# Altium footprint library STM32F411CEU6.PcbLib: 3 footprints
Each footprint in its own frame and in the unit in brackets; x right, y up, seen from the top. Pads: shape width x height; smd on the part's side, far side on the other; paste and mask are expansions set on the pad; w line width, h text height; cw(c..) or ccw(c..) is an arc to the next point about the centre after c.
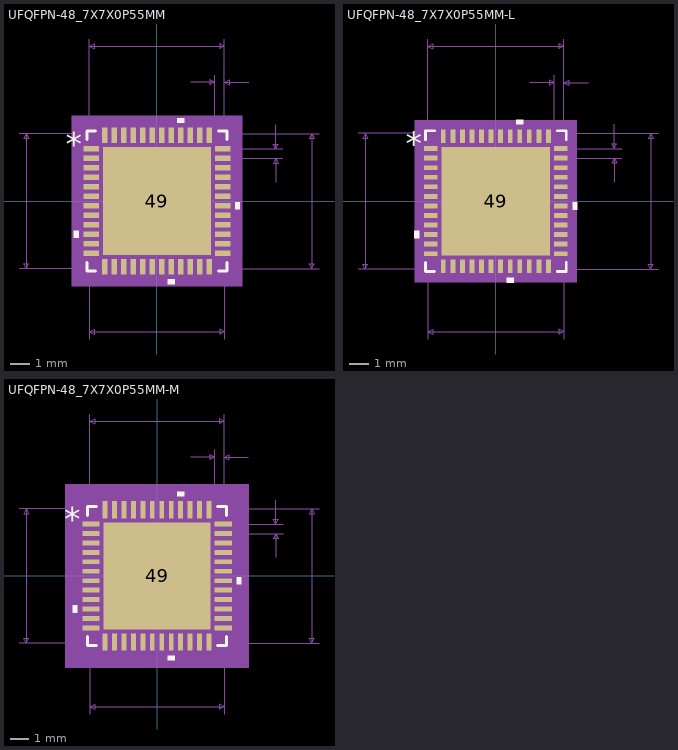
[diagram p0: the footprints below, top view; thin cyan lines are the x and y axes]

## UFQFPN-48_7X7X0P55MM [mil]
pads (49):
  rect 32x12 smd paste+0 mask+0: 1(-136,108.27) 2(-136,88.58) 3(-136,68.9) 4(-136,49.21) 5(-136,29.53) 6(-136,9.84) 7(-136,-9.84) 8(-136,-29.53) 9(-136,-49.21) 10(-136,-68.9) 11(-136,-88.58) 12(-136,-108.27) 25(136,-108.27) 26(136,-88.58) 27(136,-68.9) 28(136,-49.21) 29(136,-29.53) 30(136,-9.84) 31(136,9.84) 32(136,29.53) 33(136,49.21) 34(136,68.9) 35(136,88.58) 36(136,108.27)
  rect 12x32 smd paste+0 mask+0: 13(-108.27,-136) 14(-88.58,-136) 15(-68.9,-136) 16(-49.21,-136) 17(-29.53,-136) 18(-9.84,-136) 19(9.84,-136) 20(29.53,-136) 21(49.21,-136) 22(68.9,-136) 23(88.58,-136) 24(108.27,-136) 37(108.27,136) 38(88.58,136) 39(68.9,136) 40(49.21,136) 41(29.53,136) 42(9.84,136) 43(-9.84,136) 44(-29.53,136) 45(-49.21,136) 46(-68.9,136) 47(-88.58,136) 48(-108.27,136)
  rect 224x224 smd paste-111.5 mask+0: 49(0,0)
Top Overlay:
  region: -162,-61.4 -172,-61.4 -172,-76.4 -162,-76.4
  region: 37.03,-162 22.03,-162 22.03,-172 37.03,-172
  region: 162,-2.34 172,-2.34 172,-17.34 162,-17.34
  region: 56.71,162 41.71,162 41.71,172 56.71,172
  lines w6: -145,-127.37 -145,-145 -127.37,-145 ; -145,127.37 -145,145 -127.37,145 ; 127.37,-145 145,-145 145,-127.37 ; 127.37,145 145,145 145,127.37
  text "*" at -189.5,93.11 h50
Top Paste:
  region: -59.94,108.06 -108.06,108.06 -108.06,59.94 -59.94,59.94
  region: -59.94,52.06 -108.06,52.06 -108.06,3.94 -59.94,3.94
  region: -59.94,-3.94 -108.06,-3.94 -108.06,-52.06 -59.94,-52.06
  region: -59.94,-59.94 -108.06,-59.94 -108.06,-108.06 -59.94,-108.06
  region: -3.94,108.06 -52.06,108.06 -52.06,59.94 -3.94,59.94
  region: -3.94,52.06 -52.06,52.06 -52.06,3.94 -3.94,3.94
  region: -3.94,-3.94 -52.06,-3.94 -52.06,-52.06 -3.94,-52.06
  region: -3.94,-59.94 -52.06,-59.94 -52.06,-108.06 -3.94,-108.06
  region: 52.06,108.06 3.94,108.06 3.94,59.94 52.06,59.94
  region: 52.06,52.06 3.94,52.06 3.94,3.94 52.06,3.94
  region: 52.06,-3.94 3.94,-3.94 3.94,-52.06 52.06,-52.06
  region: 52.06,-59.94 3.94,-59.94 3.94,-108.06 52.06,-108.06
  region: 108.06,108.06 59.94,108.06 59.94,59.94 108.06,59.94
  region: 108.06,52.06 59.94,52.06 59.94,3.94 108.06,3.94
  region: 108.06,-3.94 59.94,-3.94 59.94,-52.06 108.06,-52.06
  region: 108.06,-59.94 59.94,-59.94 59.94,-108.06 108.06,-108.06
Mechanical 5:
  region: 177,-177 -177,-177 -177,177 177,177
Mechanical 7:
  lines w1: -286,-140 140,-140 ; -286,140 140,140 140,-286 ; -140,-286 -140,140 ; -140,108.27 -140,336 ; 70,246 120,246 ; 108.27,-140 336,-140 ; 108.27,140 336,140 ; 120,108.27 120,261 ; 136,88.58 261,88.58 ; 136,108.27 261,108.27 ; 140,261 140,108.27 140,336 ; 190,246 140,246 ; 246,38.58 246,88.58 ; 246,158.27 246,108.27 ; -271,-140 -271,140 ; -271,-140 -276,-130 -266,-130 -271,-140 ; -271,140 -276,130 -266,130 -271,140 ; -140,-271 140,-271 ; -140,-271 -130,-266 -130,-276 -140,-271 ; -140,321 140,321 ; -140,321 -130,326 -130,316 -140,321 ; 120,246 110,251 110,241 120,246 ; 140,-271 130,-266 130,-276 140,-271 ; 140,246 150,251 150,241 140,246 ; 140,321 130,326 130,316 140,321 ; 246,88.58 241,78.58 251,78.58 246,88.58 ; 246,108.27 241,118.27 251,118.27 246,108.27 ; 321,-140 321,140 ; 321,-140 316,-130 326,-130 321,-140 ; 321,140 316,130 326,130 321,140
  text "Default Padstyle: RX32Y12D0T" at -350,-462 h50
  text "Heat Tab Padstyle: RX224Y224D0T" at -387.5,-522 h50
  text "Alt 1 Padstyle: OX90Y60D30P" at -337.5,-642 h50
  text "Alt 2 Padstyle: OX60Y90D30P" at -337.5,-702 h50
  text "0.02in/0.5mm" at 266,85.93 h25
  text "0.02in/0.508mm" at 42.5,266 h25
  text "0.28in/7.112mm" at -87.5,341 h25
  text "0.28in/7.112mm" at 341,-12.5 h25
  text "0.28in/7.112mm" at -466,-12.5 h25
  text "0.28in/7.112mm" at -87.5,-316 h25
Mechanical 13:
  drawing of 201 lines, arcs and shapes, not listed
  text "*" at -132.5,93.11 h50
Mechanical 15:
  region: -118.11,-150 -150,-150 -150,-118.11 -160,-118.11 -160,118.11 -150,118.11 -150,150 -118.11,150 -118.11,160 118.11,160 118.11,150 150,150 150,118.11 160,118.11 160,-118.11 150,-118.11 150,-150 118.11,-150 118.11,-160 -118.11,-160
  lines w6: -160,-118.11 -150,-118.11 -150,-150 -118.11,-150 -118.11,-160 118.11,-160 118.11,-150 150,-150 150,-118.11 160,-118.11 160,118.11 150,118.11 150,150 118.11,150 118.11,160 -118.11,160 -118.11,150 -150,150 -150,118.11 -160,118.11 -160,-118.11
3D body "UFQFPN-48_7X7X0P55MM.step": height 24.09, standoff 0, extent -140,-140 140,140

## UFQFPN-48_7X7X0P55MM-L [mil]
pads (49):
  rect 28x10 smd paste+0 mask+0: 1(-134,108.27) 2(-134,88.58) 3(-134,68.9) 4(-134,49.21) 5(-134,29.53) 6(-134,9.84) 7(-134,-9.84) 8(-134,-29.53) 9(-134,-49.21) 10(-134,-68.9) 11(-134,-88.58) 12(-134,-108.27) 25(134,-108.27) 26(134,-88.58) 27(134,-68.9) 28(134,-49.21) 29(134,-29.53) 30(134,-9.84) 31(134,9.84) 32(134,29.53) 33(134,49.21) 34(134,68.9) 35(134,88.58) 36(134,108.27)
  rect 10x28 smd paste+0 mask+0: 13(-108.27,-134) 14(-88.58,-134) 15(-68.9,-134) 16(-49.21,-134) 17(-29.53,-134) 18(-9.84,-134) 19(9.84,-134) 20(29.53,-134) 21(49.21,-134) 22(68.9,-134) 23(88.58,-134) 24(108.27,-134) 37(108.27,134) 38(88.58,134) 39(68.9,134) 40(49.21,134) 41(29.53,134) 42(9.84,134) 43(-9.84,134) 44(-29.53,134) 45(-49.21,134) 46(-68.9,134) 47(-88.58,134) 48(-108.27,134)
  rect 224x224 smd paste-111.5 mask+0: 49(0,0)
Top Overlay:
  region: -158,-61.4 -168,-61.4 -168,-76.4 -158,-76.4
  region: 37.03,-158 22.03,-158 22.03,-168 37.03,-168
  region: 158,-2.34 168,-2.34 168,-17.34 158,-17.34
  region: 56.71,158 41.71,158 41.71,168 56.71,168
  lines w6: -145,-126.37 -145,-145 -126.37,-145 ; -145,126.37 -145,145 -126.37,145 ; 126.37,-145 145,-145 145,-126.37 ; 126.37,145 145,145 145,126.37
  text "*" at -185.5,93.11 h50
Top Paste:
  region: -59.94,108.06 -108.06,108.06 -108.06,59.94 -59.94,59.94
  region: -59.94,52.06 -108.06,52.06 -108.06,3.94 -59.94,3.94
  region: -59.94,-3.94 -108.06,-3.94 -108.06,-52.06 -59.94,-52.06
  region: -59.94,-59.94 -108.06,-59.94 -108.06,-108.06 -59.94,-108.06
  region: -3.94,108.06 -52.06,108.06 -52.06,59.94 -3.94,59.94
  region: -3.94,52.06 -52.06,52.06 -52.06,3.94 -3.94,3.94
  region: -3.94,-3.94 -52.06,-3.94 -52.06,-52.06 -3.94,-52.06
  region: -3.94,-59.94 -52.06,-59.94 -52.06,-108.06 -3.94,-108.06
  region: 52.06,108.06 3.94,108.06 3.94,59.94 52.06,59.94
  region: 52.06,52.06 3.94,52.06 3.94,3.94 52.06,3.94
  region: 52.06,-3.94 3.94,-3.94 3.94,-52.06 52.06,-52.06
  region: 52.06,-59.94 3.94,-59.94 3.94,-108.06 52.06,-108.06
  region: 108.06,108.06 59.94,108.06 59.94,59.94 108.06,59.94
  region: 108.06,52.06 59.94,52.06 59.94,3.94 108.06,3.94
  region: 108.06,-3.94 59.94,-3.94 59.94,-52.06 108.06,-52.06
  region: 108.06,-59.94 59.94,-59.94 59.94,-108.06 108.06,-108.06
Mechanical 5:
  region: 167,-167 -167,-167 -167,167 167,167
Mechanical 7:
  lines w1: -284,-140 140,-140 ; -284,140 140,140 140,-284 ; -140,-284 -140,140 ; -140,108.27 -140,334 ; 70,244 120,244 ; 108.27,-140 334,-140 ; 108.27,140 334,140 ; 120,108.27 120,259 ; 134,88.58 259,88.58 ; 134,108.27 259,108.27 ; 140,259 140,108.27 140,334 ; 190,244 140,244 ; 244,38.58 244,88.58 ; 244,158.27 244,108.27 ; -269,-140 -269,140 ; -269,-140 -274,-130 -264,-130 -269,-140 ; -269,140 -274,130 -264,130 -269,140 ; -140,-269 140,-269 ; -140,-269 -130,-264 -130,-274 -140,-269 ; -140,319 140,319 ; -140,319 -130,324 -130,314 -140,319 ; 120,244 110,249 110,239 120,244 ; 140,-269 130,-264 130,-274 140,-269 ; 140,244 150,249 150,239 140,244 ; 140,319 130,324 130,314 140,319 ; 244,88.58 239,78.58 249,78.58 244,88.58 ; 244,108.27 239,118.27 249,118.27 244,108.27 ; 319,-140 319,140 ; 319,-140 314,-130 324,-130 319,-140 ; 319,140 314,130 324,130 319,140
  text "Default Padstyle: RX10Y28D0T" at -350,-458 h50
  text "Heat Tab Padstyle: RX224Y224D0T" at -387.5,-518 h50
  text "Alt 1 Padstyle: OX60Y90D30P" at -337.5,-638 h50
  text "Alt 2 Padstyle: OX90Y60D30P" at -337.5,-698 h50
  text "0.02in/0.5mm" at 264,85.93 h25
  text "0.02in/0.508mm" at 42.5,264 h25
  text "0.28in/7.112mm" at -87.5,339 h25
  text "0.28in/7.112mm" at 339,-12.5 h25
  text "0.28in/7.112mm" at -464,-12.5 h25
  text "0.28in/7.112mm" at -87.5,-314 h25
Mechanical 13:
  drawing of 201 lines, arcs and shapes, not listed
  text "*" at -132.5,93.11 h50
Mechanical 15:
  region: -117.27,-144 -144,-144 -144,-117.27 -152,-117.27 -152,117.27 -144,117.27 -144,144 -117.27,144 -117.27,152 117.27,152 117.27,144 144,144 144,117.27 152,117.27 152,-117.27 144,-117.27 144,-144 117.27,-144 117.27,-152 -117.27,-152
  lines w6: -152,-117.27 -144,-117.27 -144,-144 -117.27,-144 -117.27,-152 117.27,-152 117.27,-144 144,-144 144,-117.27 152,-117.27 152,117.27 144,117.27 144,144 117.27,144 117.27,152 -117.27,152 -117.27,144 -144,144 -144,117.27 -152,117.27 -152,-117.27
3D body "UFQFPN-48_7X7X0P55MM.step": height 24.09, standoff 0, extent -140,-140 140,140

## UFQFPN-48_7X7X0P55MM-M [mil]
pads (49):
  rect 36x10 smd paste+0 mask+0: 1(-138,108.27) 2(-138,88.58) 3(-138,68.9) 4(-138,49.21) 5(-138,29.53) 6(-138,9.84) 7(-138,-9.84) 8(-138,-29.53) 9(-138,-49.21) 10(-138,-68.9) 11(-138,-88.58) 12(-138,-108.27) 25(138,-108.27) 26(138,-88.58) 27(138,-68.9) 28(138,-49.21) 29(138,-29.53) 30(138,-9.84) 31(138,9.84) 32(138,29.53) 33(138,49.21) 34(138,68.9) 35(138,88.58) 36(138,108.27)
  rect 10x36 smd paste+0 mask+0: 13(-108.27,-138) 14(-88.58,-138) 15(-68.9,-138) 16(-49.21,-138) 17(-29.53,-138) 18(-9.84,-138) 19(9.84,-138) 20(29.53,-138) 21(49.21,-138) 22(68.9,-138) 23(88.58,-138) 24(108.27,-138) 37(108.27,138) 38(88.58,138) 39(68.9,138) 40(49.21,138) 41(29.53,138) 42(9.84,138) 43(-9.84,138) 44(-29.53,138) 45(-49.21,138) 46(-68.9,138) 47(-88.58,138) 48(-108.27,138)
  rect 224x224 smd paste-111.5 mask+0: 49(0,0)
Top Overlay:
  region: -166,-61.4 -176,-61.4 -176,-76.4 -166,-76.4
  region: 37.03,-166 22.03,-166 22.03,-176 37.03,-176
  region: 166,-2.34 176,-2.34 176,-17.34 166,-17.34
  region: 56.71,166 41.71,166 41.71,176 56.71,176
  lines w6: -145,-126.37 -145,-145 -126.37,-145 ; -145,126.37 -145,145 -126.37,145 ; 126.37,-145 145,-145 145,-126.37 ; 126.37,145 145,145 145,126.37
  text "*" at -193.5,93.11 h50
Top Paste:
  region: -59.94,108.06 -108.06,108.06 -108.06,59.94 -59.94,59.94
  region: -59.94,52.06 -108.06,52.06 -108.06,3.94 -59.94,3.94
  region: -59.94,-3.94 -108.06,-3.94 -108.06,-52.06 -59.94,-52.06
  region: -59.94,-59.94 -108.06,-59.94 -108.06,-108.06 -59.94,-108.06
  region: -3.94,108.06 -52.06,108.06 -52.06,59.94 -3.94,59.94
  region: -3.94,52.06 -52.06,52.06 -52.06,3.94 -3.94,3.94
  region: -3.94,-3.94 -52.06,-3.94 -52.06,-52.06 -3.94,-52.06
  region: -3.94,-59.94 -52.06,-59.94 -52.06,-108.06 -3.94,-108.06
  region: 52.06,108.06 3.94,108.06 3.94,59.94 52.06,59.94
  region: 52.06,52.06 3.94,52.06 3.94,3.94 52.06,3.94
  region: 52.06,-3.94 3.94,-3.94 3.94,-52.06 52.06,-52.06
  region: 52.06,-59.94 3.94,-59.94 3.94,-108.06 52.06,-108.06
  region: 108.06,108.06 59.94,108.06 59.94,59.94 108.06,59.94
  region: 108.06,52.06 59.94,52.06 59.94,3.94 108.06,3.94
  region: 108.06,-3.94 59.94,-3.94 59.94,-52.06 108.06,-52.06
  region: 108.06,-59.94 59.94,-59.94 59.94,-108.06 108.06,-108.06
Mechanical 5:
  region: 191,-191 -191,-191 -191,191 191,191
Mechanical 7:
  lines w1: -288,-140 140,-140 ; -288,140 140,140 140,-288 ; -140,-288 -140,140 ; -140,108.27 -140,338 ; 70,248 120,248 ; 108.27,-140 338,-140 ; 108.27,140 338,140 ; 120,108.27 120,263 ; 138,88.58 263,88.58 ; 138,108.27 263,108.27 ; 140,263 140,108.27 140,338 ; 190,248 140,248 ; 248,38.58 248,88.58 ; 248,158.27 248,108.27 ; -273,-140 -273,140 ; -273,-140 -278,-130 -268,-130 -273,-140 ; -273,140 -278,130 -268,130 -273,140 ; -140,-273 140,-273 ; -140,-273 -130,-268 -130,-278 -140,-273 ; -140,323 140,323 ; -140,323 -130,328 -130,318 -140,323 ; 120,248 110,253 110,243 120,248 ; 140,-273 130,-268 130,-278 140,-273 ; 140,248 150,253 150,243 140,248 ; 140,323 130,328 130,318 140,323 ; 248,88.58 243,78.58 253,78.58 248,88.58 ; 248,108.27 243,118.27 253,118.27 248,108.27 ; 323,-140 323,140 ; 323,-140 318,-130 328,-130 323,-140 ; 323,140 318,130 328,130 323,140
  text "Default Padstyle: RX10Y36D0T" at -350,-466 h50
  text "Heat Tab Padstyle: RX224Y224D0T" at -387.5,-526 h50
  text "Alt 1 Padstyle: OX60Y90D30P" at -337.5,-646 h50
  text "Alt 2 Padstyle: OX90Y60D30P" at -337.5,-706 h50
  text "0.02in/0.5mm" at 268,85.93 h25
  text "0.02in/0.508mm" at 42.5,268 h25
  text "0.28in/7.112mm" at -87.5,343 h25
  text "0.28in/7.112mm" at 343,-12.5 h25
  text "0.28in/7.112mm" at -468,-12.5 h25
  text "0.28in/7.112mm" at -87.5,-318 h25
Mechanical 13:
  drawing of 201 lines, arcs and shapes, not listed
  text "*" at -132.5,93.11 h50
Mechanical 15:
  region: -133.27,-160 -160,-160 -160,-133.27 -176,-133.27 -176,133.27 -160,133.27 -160,160 -133.27,160 -133.27,176 133.27,176 133.27,160 160,160 160,133.27 176,133.27 176,-133.27 160,-133.27 160,-160 133.27,-160 133.27,-176 -133.27,-176
  lines w6: -176,-133.27 -160,-133.27 -160,-160 -133.27,-160 -133.27,-176 133.27,-176 133.27,-160 160,-160 160,-133.27 176,-133.27 176,133.27 160,133.27 160,160 133.27,160 133.27,176 -133.27,176 -133.27,160 -160,160 -160,133.27 -176,133.27 -176,-133.27
3D body "UFQFPN-48_7X7X0P55MM.step": height 24.09, standoff 0, extent -140,-140 140,140